# Altium footprint library PcbLib1.PcbLib: 98 footprints (part 1 of 7)
Each footprint in its own frame and in the unit in brackets; x right, y up, seen from the top. Pads: shape width x height; smd on the part's side, far side on the other; paste and mask are expansions set on the pad; w line width, h text height; cw(c..) or ccw(c..) is an arc to the next point about the centre after c.
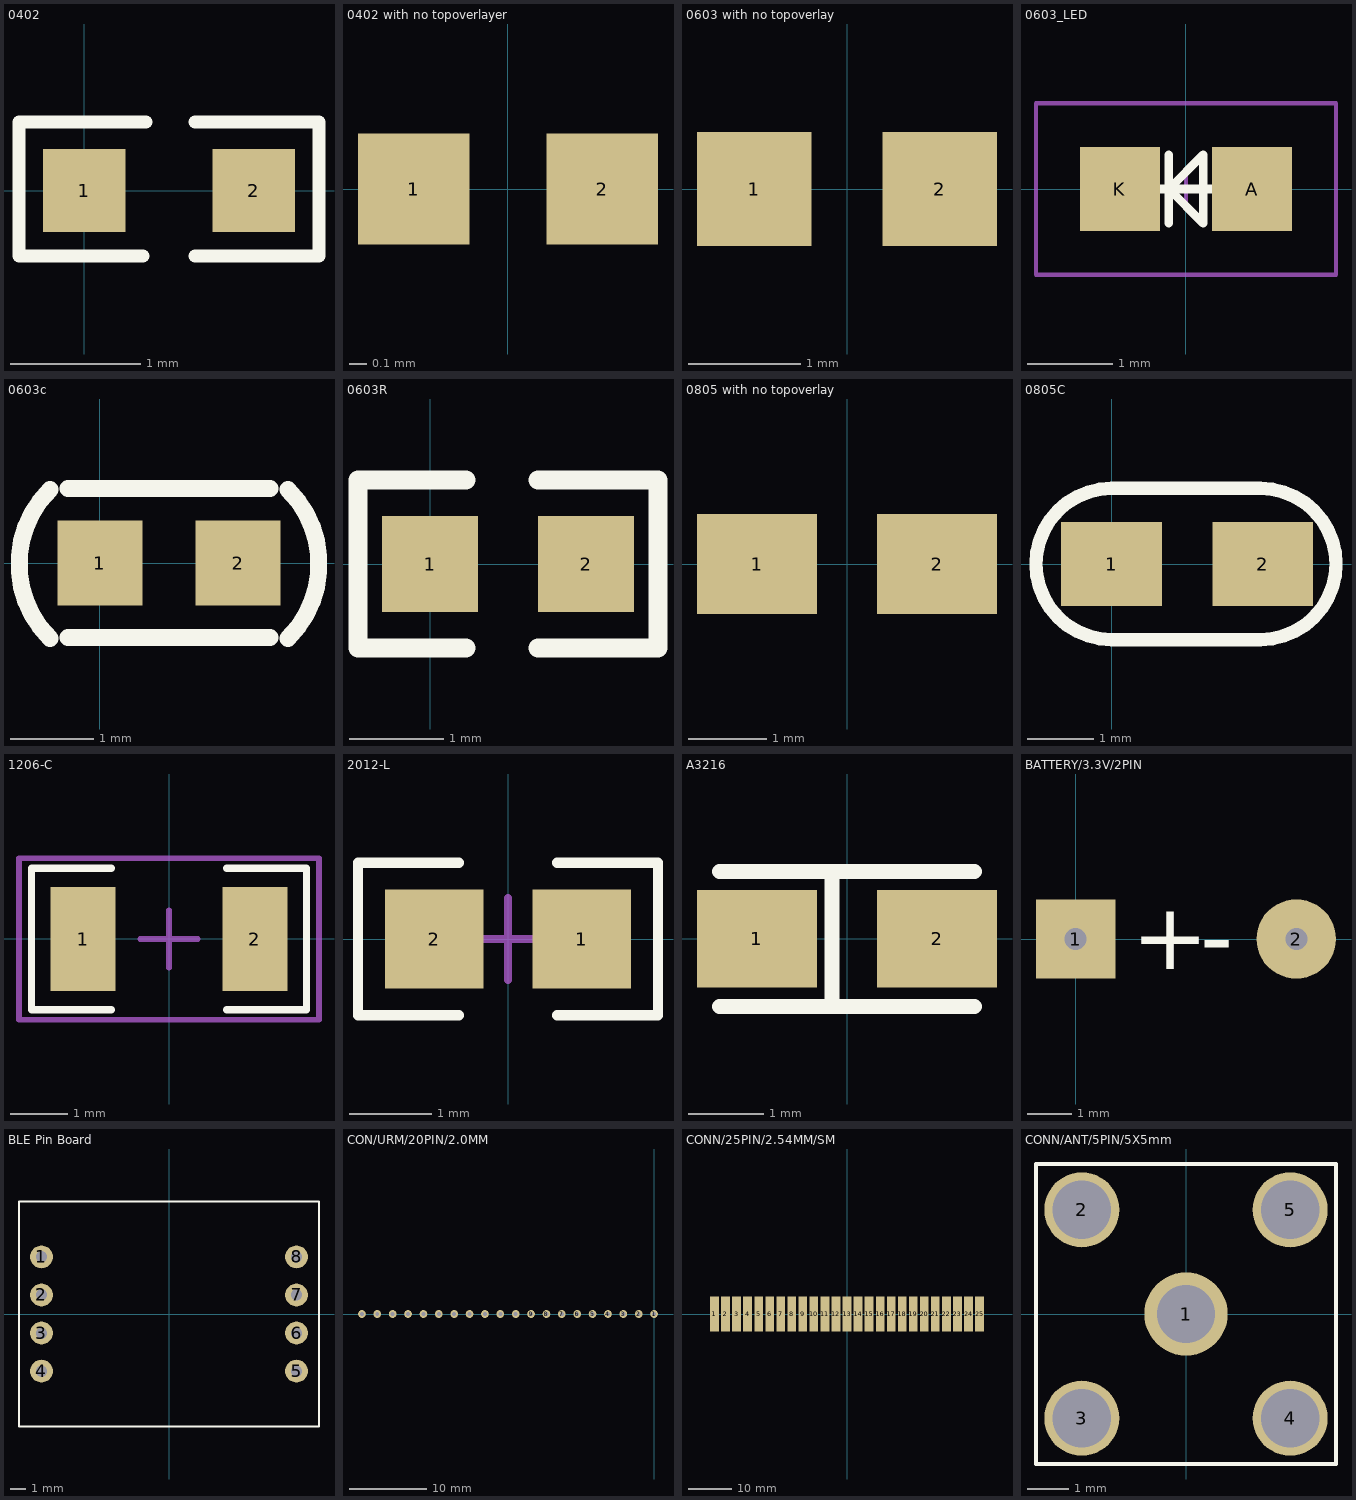
[diagram p0: the footprints below, top view; thin cyan lines are the x and y axes]

## 0402 [mm]
pads (2):
  rect 0.635x0.635 smd: 1(0,0) 2(1.3,0)
Top Overlay:
  lines w0.1: 0.45,-0.5 -0.5,-0.5 -0.5,0.525 0.475,0.525 ; 0.85,-0.5 1.8,-0.5 1.8,0.525 0.85,0.525

## 0402 with no topoverlayer [mm]
pads (2):
  rect 0.65x0.65 smd mask+0.05: 1(-0.55,0) 2(0.55,0)

## 0603 with no topoverlay [mil]
pads (2):
  rect 40x40 smd: 1(-32.5,0) 2(32.5,0)

## 0603_LED [mm]
pads (2):
  rect 0.93x0.98 smd: A(0.77,0) K(-0.77,0)
Top Overlay:
  lines w0.1: -0.4,0 0.4,0 ; -0.2,-0.4 -0.2,0.4 ; -0.2,0 0.2,0.4 0.2,-0.4 -0.2,0
Mechanical 15:
  lines w0.05: -0.2,0 0.2,0 ; 0,-0.2 0,0.2 ; -1.75,-1 -1.75,1 1.75,1 1.75,-1 -1.75,-1
3D body: height 0.6, standoff 0, extent -0.8,-0.4 0.8,0.4

## 0603c [mil]
pads (2):
  rect 40x40 smd: 1(0,0) 2(65,0)
Top Overlay:
  lines w8: -23.62,-35.43 cw(c11.38,-0.43) -23.62,34.57 ; -15,-35 80,-35 ; -15,35 80,35 ; 88.58,-35.43 ccw(c53.58,-0.43) 88.58,34.57
3D body: height 23.62, standoff 0, extent 0.51,-15.74 63.5,15.75

## 0603R [mil]
pads (2):
  rect 40x40 smd: 1(0,0) 2(65,0)
Top Overlay:
  lines w8: 15,-35 -30,-35 -30,35 15,35 ; 45,-35 95,-35 95,35 45,35
3D body: height 11.89, standoff 0, extent 0.51,-15.74 63.5,15.75

## 0805 with no topoverlay [mil]
pads (2):
  rect 60x50 smd: 1(-45,0) 2(45,0)

## 0805C [mil]
pads (2):
  rect 60x50 smd: 1(0,0) 2(90,0)
Top Overlay:
  lines w8: 65,45 88.58,45 cw(c88.58,0) 88.58,-45 65,-45 0,-45 cw(c0,0) 0,45 70,45
3D body: height 47.24, standoff 0, extent 5.63,-23.62 84.37,23.62

## 1206-C [mm]
pads (2):
  rect 1.13x1.8 smd: 1(-1.49,0) 2(1.49,0)
Top Overlay:
  lines w0.127: -1,-1.227 -2.382,-1.227 -2.382,1.227 -1,1.227 ; 1,-1.227 2.382,-1.227 2.382,1.227 1,1.227
Mechanical 15:
  lines w0.1: -0.5,0 0.5,0 ; 0,-0.5 0,0.5 ; -2.6,-1.4 -2.6,1.4 2.6,1.4 2.6,-1.4 -2.6,-1.4
3D body: height 1, standoff 0, extent -1.602,-0.813 1.598,0.787

## 2012-L [mm]
pads (2):
  rect 1.2x1.2 smd: 1(0.9,0) 2(-0.9,0)
Top Overlay:
  lines w0.127: -0.6,-0.927 -1.827,-0.927 -1.827,0.927 -0.6,0.927 ; 0.6,-0.927 1.827,-0.927 1.827,0.927 0.6,0.927
Mechanical 15:
  lines w0.1: -0.5,0 0.5,0 ; 0,-0.5 0,0.5
3D body: height 1.2, standoff 0, extent -1,-0.65 1,0.65

## A3216 [mm]
pads (2):
  rect 1.6x1.3 smd paste+0 mask+0.1: 1(-1.2,0) 2(1.2,0)
Top Overlay:
  lines w0.2: -1.7,-0.9 1.7,-0.9 ; -1.7,0.9 1.7,0.9 ; -0.203,-0.838 -0.203,0.813

## BATTERY/3.3V/2PIN [mm]
pads (2):
  rect 1.8x1.8 hole 0.5: 1(0,0)
  round 1.8 hole 0.5: 2(5,0)
Top Overlay:
  text "+" at 1.27,-0.686 h1.52
  text "-" at 2.819,-0.686 h1.52

## BLE Pin Board [mil]
pads (8):
  round 60 hole 30: 1(-334.65,150) 2(-334.65,50) 3(-334.65,-50) 4(-334.65,-150) 5(334.65,-150) 6(334.65,-50) 7(334.65,50) 8(334.65,150)
Top Overlay:
  lines w5: -393.7,-295.28 393.7,-295.28 393.7,295.28 -393.7,295.28 -393.7,-295.28

## CON/URM/20PIN/2.0MM [mil]
pads (20):
  round 40 hole 20 mask+2.5: 1(0,0) 2(-78.74,0) 3(-157.48,0) 4(-236.22,0) 5(-314.96,0) 6(-393.7,0) 7(-472.44,0) 8(-551.18,0) 9(-629.92,0) 10(-708.66,0) 11(-787.4,0) 12(-866.14,0) 13(-944.88,0) 14(-1023.62,0) 15(-1102.36,0) 16(-1181.1,0) 17(-1259.84,0) 18(-1338.58,0) 19(-1417.32,0) 20(-1496.06,0)

## CONN/25PIN/2.54MM/SM [mm]
pads (25):
  rect 2x8 smd: 1(-30.48,0) 2(-27.94,0) 3(-25.4,0) 4(-22.86,0) 5(-20.32,0) 6(-17.78,0) 7(-15.24,0) 8(-12.7,0) 9(-10.16,0) 10(-7.62,0) 11(-5.08,0) 12(-2.54,0) 13(0,0) 14(2.54,0) 15(5.08,0) 16(7.62,0) 17(10.16,0) 18(12.7,0) 19(15.24,0) 20(17.78,0) 21(20.32,0) 22(22.86,0) 23(25.4,0) 24(27.94,0) 25(30.48,0)

## CONN/ANT/5PIN/5X5mm [mm]
pads (5):
  round 2 hole 1.4: 1(0,0)
  round 1.8 hole 1.4: 2(-2.5,2.5) 3(-2.5,-2.5) 4(2.5,-2.5) 5(2.5,2.5)
Top Overlay:
  lines w0.1: -3.6,-3.6 -3.6,3.6 3.6,3.6 3.6,-3.6 -3.6,-3.6